# Altium footprint library memory-motorola-dram.PCBLIB: 2 footprints
Each footprint in its own frame and in the unit in brackets; x right, y up, seen from the top. Pads: shape width x height; smd on the part's side, far side on the other; paste and mask are expansions set on the pad; w line width, h text height; cw(c..) or ccw(c..) is an arc to the next point about the centre after c.
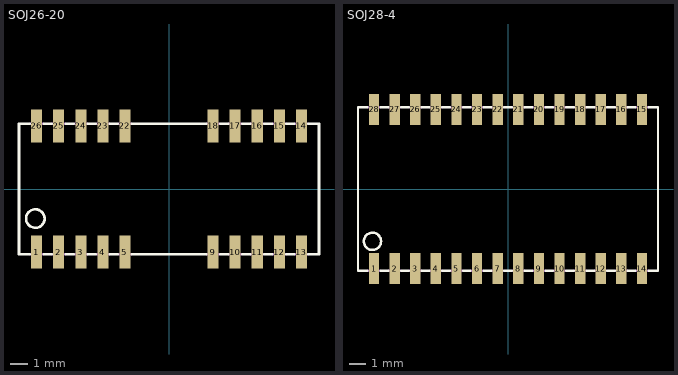
[diagram p0: the footprints below, top view; thin cyan lines are the x and y axes]

## SOJ26-20 [mil]
pads (20):
  rect 25x75 smd: 1(-300,-143) 2(-250,-143) 3(-200,-143) 4(-150,-143) 5(-100,-143) 9(100,-143) 10(150,-143) 11(200,-143) 12(250,-143) 13(300,-143) 14(300,143) 15(250,143) 16(200,143) 17(150,143) 18(100,143) 22(-100,143) 23(-150,143) 24(-200,143) 25(-250,143) 26(-300,143)
Top Overlay:
  circle w6: c-303,-67 r21
  lines w6: -316,-148 -340,-148 -340,148 -316,148 ; -284,-148 -266,-148 ; -284,148 -266,148 ; -234,-148 -216,-148 ; -234,148 -216,148 ; -184,-148 -166,-148 ; -184,148 -166,148 ; -134,-148 -116,-148 ; -134,148 -116,148 ; -84,-148 84,-148 ; -84,148 84,148 ; 116,-148 134,-148 ; 116,148 134,148 ; 166,-148 184,-148 ; 166,148 184,148 ; 216,-148 234,-148 ; 216,148 234,148 ; 266,-148 284,-148 ; 266,148 284,148 ; 316,-148 340,-148 340,148 316,148
Mechanical 16:
  rectangle: 290,150 310,170
  rectangle: 293,120 307,150
  rectangle: 290,-170 310,-150
  rectangle: 293,-150 307,-120
  rectangle: 240,150 260,170
  rectangle: 243,120 257,150
  rectangle: 190,150 210,170
  rectangle: 193,120 207,150
  rectangle: 140,150 160,170
  rectangle: 143,120 157,150
  rectangle: 90,150 110,170
  rectangle: 93,120 107,150
  rectangle: -110,150 -90,170
  rectangle: -107,120 -93,150
  rectangle: -160,150 -140,170
  rectangle: -157,120 -143,150
  rectangle: -210,150 -190,170
  rectangle: -207,120 -193,150
  rectangle: -260,150 -240,170
  rectangle: -257,120 -243,150
  rectangle: -310,150 -290,170
  rectangle: -307,120 -293,150
  rectangle: -310,-170 -290,-150
  rectangle: -307,-150 -293,-120
  rectangle: -260,-170 -240,-150
  rectangle: -257,-150 -243,-120
  rectangle: -210,-170 -190,-150
  rectangle: -207,-150 -193,-120
  rectangle: -160,-170 -140,-150
  rectangle: -157,-150 -143,-120
  rectangle: -110,-170 -90,-150
  rectangle: -107,-150 -93,-120
  rectangle: 90,-170 110,-150
  rectangle: 93,-150 107,-120
  rectangle: 140,-170 160,-150
  rectangle: 143,-150 157,-120
  rectangle: 190,-170 210,-150
  rectangle: 193,-150 207,-120
  rectangle: 240,-170 260,-150
  rectangle: 243,-150 257,-120
  lines w6: -314,-148 -286,-148 ; -314,148 -286,148 ; -264,-148 -236,-148 ; -264,148 -236,148 ; -214,-148 -186,-148 ; -214,148 -186,148 ; -164,-148 -136,-148 ; -164,148 -136,148 ; -114,-148 -86,-148 ; -114,148 -86,148 ; 86,-148 114,-148 ; 86,148 114,148 ; 136,-148 164,-148 ; 136,148 164,148 ; 186,-148 214,-148 ; 186,148 214,148 ; 236,-148 264,-148 ; 236,148 264,148 ; 286,-148 314,-148 ; 286,148 314,148

## SOJ28-4 [mil]
pads (28):
  rect 25x75 smd: 1(-325,-193) 2(-275,-193) 3(-225,-193) 4(-175,-193) 5(-125,-193) 6(-75,-193) 7(-25,-193) 8(25,-193) 9(75,-193) 10(125,-193) 11(175,-193) 12(225,-193) 13(275,-193) 14(325,-193) 15(325,193) 16(275,193) 17(225,193) 18(175,193) 19(125,193) 20(75,193) 21(25,193) 22(-25,193) 23(-75,193) 24(-125,193) 25(-175,193) 26(-225,193) 27(-275,193) 28(-325,193)
Top Overlay:
  circle w6: c-329,-127 r21
  lines w6: -341,-198 -364,-198 -364,198 -341,198 ; -309,-198 -291,-198 ; -309,198 -291,198 ; -259,-198 -241,-198 ; -259,198 -241,198 ; -209,-198 -191,-198 ; -209,198 -191,198 ; -159,-198 -141,-198 ; -159,198 -141,198 ; -109,-198 -91,-198 ; -109,198 -91,198 ; -59,-198 -41,-198 ; -59,198 -41,198 ; -9,-198 9,-198 ; -9,198 9,198 ; 41,-198 59,-198 ; 41,198 59,198 ; 91,-198 109,-198 ; 91,198 109,198 ; 141,-198 159,-198 ; 141,198 159,198 ; 191,-198 209,-198 ; 191,198 209,198 ; 241,-198 259,-198 ; 241,198 259,198 ; 291,-198 309,-198 ; 291,198 309,198 ; 341,-198 364,-198 364,198 341,198
Mechanical 16:
  rectangle: 315,200 335,220
  rectangle: 318,170 332,200
  rectangle: 315,-220 335,-200
  rectangle: 318,-200 332,-170
  rectangle: 265,200 285,220
  rectangle: 268,170 282,200
  rectangle: 215,200 235,220
  rectangle: 218,170 232,200
  rectangle: 165,200 185,220
  rectangle: 168,170 182,200
  rectangle: 115,200 135,220
  rectangle: 118,170 132,200
  rectangle: 65,200 85,220
  rectangle: 68,170 82,200
  rectangle: 15,200 35,220
  rectangle: 18,170 32,200
  rectangle: -35,200 -15,220
  rectangle: -32,170 -18,200
  rectangle: -185,200 -165,220
  rectangle: -182,170 -168,200
  rectangle: -135,200 -115,220
  rectangle: -132,170 -118,200
  rectangle: -85,200 -65,220
  rectangle: -82,170 -68,200
  rectangle: -235,200 -215,220
  rectangle: -232,170 -218,200
  rectangle: -285,200 -265,220
  rectangle: -282,170 -268,200
  rectangle: -335,200 -315,220
  rectangle: -332,170 -318,200
  rectangle: -335,-220 -315,-200
  rectangle: -332,-200 -318,-170
  rectangle: -285,-220 -265,-200
  rectangle: -282,-200 -268,-170
  rectangle: -235,-220 -215,-200
  rectangle: -232,-200 -218,-170
  rectangle: -185,-220 -165,-200
  rectangle: -182,-200 -168,-170
  rectangle: -135,-220 -115,-200
  rectangle: -132,-200 -118,-170
  rectangle: -85,-220 -65,-200
  rectangle: -82,-200 -68,-170
  rectangle: -35,-220 -15,-200
  rectangle: -32,-200 -18,-170
  rectangle: 15,-220 35,-200
  rectangle: 18,-200 32,-170
  rectangle: 65,-220 85,-200
  rectangle: 68,-200 82,-170
  rectangle: 115,-220 135,-200
  rectangle: 118,-200 132,-170
  rectangle: 165,-220 185,-200
  rectangle: 168,-200 182,-170
  rectangle: 215,-220 235,-200
  rectangle: 218,-200 232,-170
  rectangle: 265,-220 285,-200
  rectangle: 268,-200 282,-170
  lines w6: -339,-198 -311,-198 ; -339,198 -311,198 ; -289,-198 -261,-198 ; -289,198 -261,198 ; -239,-198 -211,-198 ; -239,198 -211,198 ; -189,-198 -161,-198 ; -189,198 -161,198 ; -139,-198 -111,-198 ; -139,198 -111,198 ; -89,-198 -61,-198 ; -89,198 -61,198 ; -39,-198 -11,-198 ; -39,198 -11,198 ; 11,-198 39,-198 ; 11,198 39,198 ; 61,-198 89,-198 ; 61,198 89,198 ; 111,-198 139,-198 ; 111,198 139,198 ; 161,-198 189,-198 ; 161,198 189,198 ; 211,-198 239,-198 ; 211,198 239,198 ; 261,-198 289,-198 ; 261,198 289,198 ; 311,-198 339,-198 ; 311,198 339,198